# Altium footprint library PCB - LEADLESS - SON - TI LSON-22 DQP0022A.PcbLib: 1 footprints
Each footprint in its own frame and in the unit in brackets; x right, y up, seen from the top. Pads: shape width x height; smd on the part's side, far side on the other; paste and mask are expansions set on the pad; w line width, h text height; cw(c..) or ccw(c..) is an arc to the next point about the centre after c.
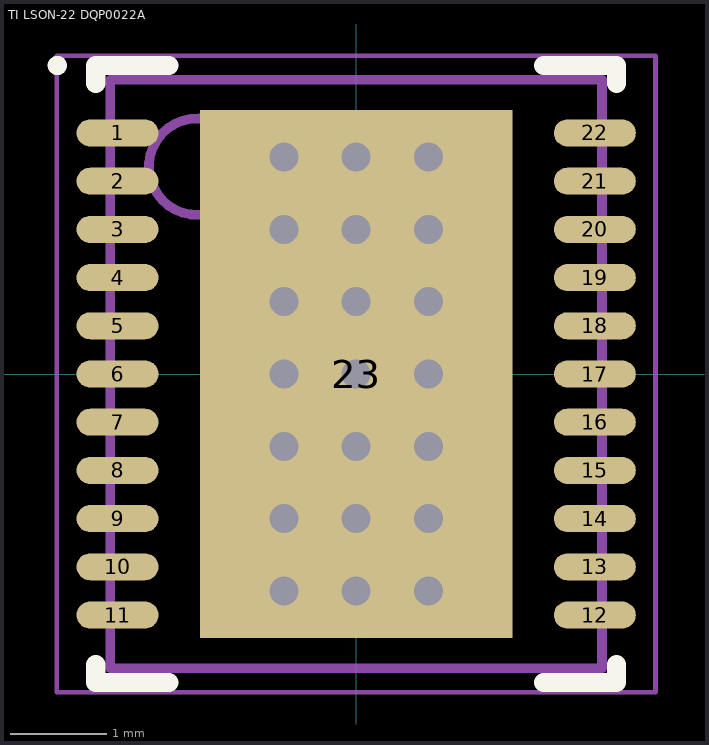
[diagram p0: the footprint, top view; thin cyan lines are the x and y axes]

## TI LSON-22 DQP0022A [mm] "SON, 22-Leads, Body 6.00x5.00mm, Pitch 0.50mm, Thermal Pad 5.48x3.24mm, IPC Medium Density"
height 1.5
pads (23):
  oval 0.85x0.28 smd: 1(-2.475,2.5) 2(-2.475,2) 3(-2.475,1.5) 4(-2.475,1) 5(-2.475,0.5) 6(-2.475,0) 7(-2.475,-0.5) 8(-2.475,-1) 9(-2.475,-1.5) 10(-2.475,-2) 11(-2.475,-2.5) 12(2.475,-2.5) 13(2.475,-2) 14(2.475,-1.5) 15(2.475,-1) 16(2.475,-0.5) 17(2.475,0) 18(2.475,0.5) 19(2.475,1) 20(2.475,1.5) 21(2.475,2) 22(2.475,2.5)
  rect 3.24x5.48 smd paste-1.62: 23(0,0)
via -0.75,-0.75 diameter 0.5 hole 0.3
via 0,-0.75 diameter 0.5 hole 0.3
via 0.75,-0.75 diameter 0.5 hole 0.3
via -0.75,-1.5 diameter 0.5 hole 0.3
via 0,-1.5 diameter 0.5 hole 0.3
via 0.75,-1.5 diameter 0.5 hole 0.3
via -0.75,-2.25 diameter 0.5 hole 0.3
via 0,-2.25 diameter 0.5 hole 0.3
via 0.75,-2.25 diameter 0.5 hole 0.3
via 0.75,0 diameter 0.5 hole 0.3
via -0.75,2.25 diameter 0.5 hole 0.3
via 0,2.25 diameter 0.5 hole 0.3
via 0.75,2.25 diameter 0.5 hole 0.3
via -0.75,1.5 diameter 0.5 hole 0.3
via 0,1.5 diameter 0.5 hole 0.3
via 0.75,1.5 diameter 0.5 hole 0.3
via -0.75,0.75 diameter 0.5 hole 0.3
via 0,0.75 diameter 0.5 hole 0.3
via 0.75,0.75 diameter 0.5 hole 0.3
via 0,0 diameter 0.5 hole 0.3
via -0.75,0 diameter 0.5 hole 0.3
Top Overlay:
  circle w0.1: c-3.1,3.2 r0.05
  lines w0.2: -2.7,-3.015 -2.7,-3.2 -1.945,-3.2 ; -2.7,3.015 -2.7,3.2 -1.945,3.2 ; 1.945,-3.2 2.7,-3.2 2.7,-3.015 ; 1.945,3.2 2.7,3.2 2.7,3.015
Top Paste:
  rectangle: 0.1,-2.64 1.52,-1.47
  rectangle: 0.1,-1.27 1.52,-0.1
  rectangle: 0.1,0.1 1.52,1.27
  rectangle: 0.1,1.47 1.52,2.64
  rectangle: -1.52,-2.64 -0.1,-1.47
  rectangle: -1.52,-1.27 -0.1,-0.1
  rectangle: -1.52,0.1 -0.1,1.27
  rectangle: -1.52,1.47 -0.1,2.64
Mechanical 13:
  circle w0.1: c-1.65,2.15 r0.5
  lines w0.1: -2.55,-3.05 2.55,-3.05 2.55,3.05 -2.55,3.05 -2.55,-3.05
Mechanical 15:
  lines w0.05: -3.105,-3.3 3.105,-3.3 3.105,3.3 -3.105,3.3 -3.105,-3.3
  lines w0.1: -0.5,0 0.5,0 ; 0,-0.5 0,0.5
3D body "TI - LSON-22 (6x5) - DQP0022A v1.step": height 1.45, standoff -0.05, extent -2.5,-3 2.5,3